# EAGLE library part WW-34P-SPECIAL (library custom)
34 pin header, special pin numbers
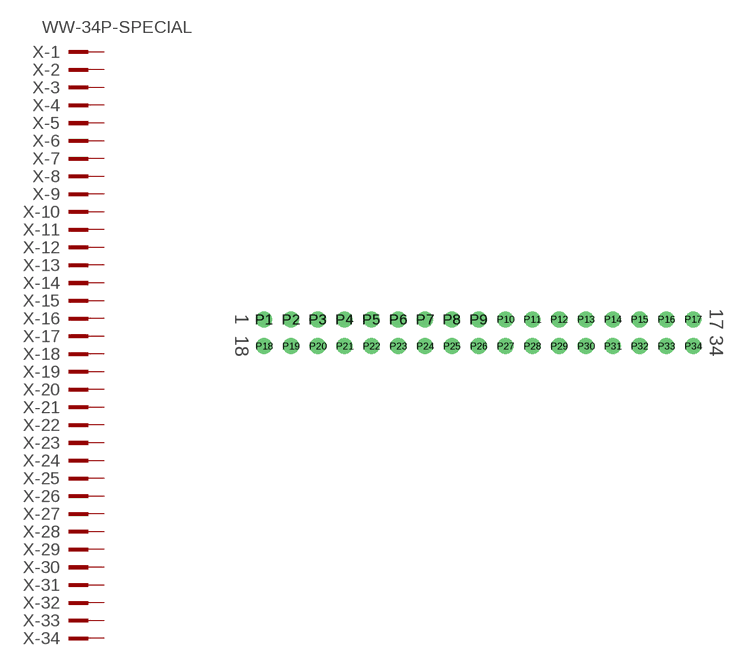
[diagram p0: symbol with the pads of PAK100/2500-34; footprint PAK100/2500-34]

Designator prefix X; gates -1=PINV -2=PIN -3=PIN -4=PIN -5=PIN -6=PIN -7=PIN -8=PIN -9=PIN -10=PIN -11=PIN -12=PIN -13=PIN -14=PIN -15=PIN -16=PIN -17=PIN -18=PIN -19=PIN -20=PIN -21=PIN -22=PIN -23=PIN -24=PIN -25=PIN -26=PIN -27=PIN -28=PIN -29=PIN -30=PIN -31=PIN -32=PIN -33=PIN -34=PIN

## WW-34P-SPECIALIM483I_HEADER (OC_FARNELL: unknown; OC_NEWARK: unknown)  [PAK100/2500-34]
P1  -1:KL  pas
P2  -2:KL  pas
P3  -3:KL  pas
P4  -4:KL  pas
P5  -5:KL  pas
P6  -6:KL  pas
P7  -7:KL  pas
P8  -8:KL  pas
P9  -9:KL  pas
P10  -10:KL  pas
P11  -11:KL  pas
P12  -12:KL  pas
P13  -13:KL  pas
P14  -14:KL  pas
P15  -15:KL  pas
P16  -16:KL  pas
P17  -17:KL  pas
P18  -18:KL  pas
P19  -19:KL  pas
P20  -20:KL  pas
P21  -21:KL  pas
P22  -22:KL  pas
P23  -23:KL  pas
P24  -24:KL  pas
P25  -25:KL  pas
P26  -26:KL  pas
P27  -27:KL  pas
P28  -28:KL  pas
P29  -29:KL  pas
P30  -30:KL  pas
P31  -31:KL  pas
P32  -32:KL  pas
P33  -33:KL  pas
P34  -34:KL  pas

## Footprint PAK100/2500-34 (pad centres in mm)
3M (TM) Pak 100 4-Wall Header Straight Source: 3M
drill 1.016 pad 1.422: P1 -20.32,1.27; P2 -17.78,1.27; P3 -15.24,1.27; P4 -12.7,1.27; P5 -10.16,1.27; P6 -7.62,1.27; P7 -5.08,1.27; P8 -2.54,1.27; P9 0,1.27; P10 2.54,1.27; P11 5.08,1.27; P12 7.62,1.27; P13 10.16,1.27; P14 12.7,1.27; P15 15.24,1.27; P16 17.78,1.27; P17 20.32,1.27; P18 -20.32,-1.27; P19 -17.78,-1.27; P20 -15.24,-1.27; P21 -12.7,-1.27; P22 -10.16,-1.27; P23 -7.62,-1.27; P24 -5.08,-1.27; P25 -2.54,-1.27; P26 0,-1.27; P27 2.54,-1.27; P28 5.08,-1.27; P29 7.62,-1.27; P30 10.16,-1.27; P31 12.7,-1.27; P32 15.24,-1.27; P33 17.78,-1.27; P34 20.32,-1.27